# EAGLE library part SN74LVC244A (library hybridpi)
High Speed Tri-State Buffer Texas Instruments Datasheet: SN74LVC244A <http://www.ti.com/lit/ds/symlink/sn74lvc244a.pdf>
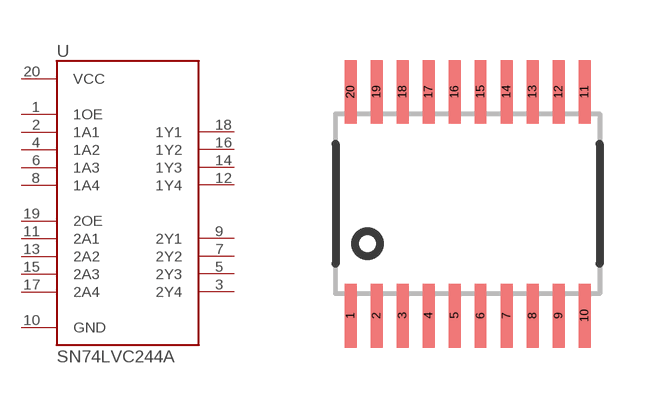
[diagram p5: symbol with the pads of TSSOP-20; footprint TSSOP-20]

Designator prefix U

## SN74LVC244A-TSSOP (EAGLEUP: TSSOP-20)  [TSSOP-20]
1  1OE
2  1A1
3  2Y4
4  1A2
5  2Y3
6  1A3
7  2Y2
8  1A4
9  2Y1
10  GND
11  2A1
12  1Y4
13  2A2
14  1Y3
15  2A3
16  1Y2
17  2A4
18  1Y1
19  2OE
20  VCC

## Footprint TSSOP-20 (pad centres in mm)
smd 0.3 x 1.6: 1 -2.925,-2.8; 2 -2.275,-2.8; 3 -1.625,-2.8; 4 -0.975,-2.8; 5 -0.325,-2.8; 6 0.325,-2.8; 7 0.975,-2.8; 8 1.625,-2.8; 9 2.275,-2.8; 10 2.925,-2.8; 11 2.925,2.8; 12 2.275,2.8; 13 1.625,2.8; 14 0.975,2.8; 15 0.325,2.8; 16 -0.325,2.8; 17 -0.975,2.8; 18 -1.625,2.8; 19 -2.275,2.8; 20 -2.925,2.8